# EAGLE library part FAN5602 (library lolomolo)
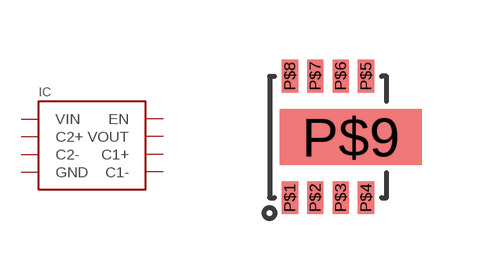
[diagram p7: symbol with the pads of 3X3MM_8LEAD_MLP; footprint 3X3MM_8LEAD_MLP]

Designator prefix IC

## FAN5602  [3X3MM_8LEAD_MLP]
P$1  VIN
P$2  C2+
P$3  C2-
P$4  GND
P$5  C1-
P$6  VOUT
P$7  C1+
P$8  EN

## Footprint 3X3MM_8LEAD_MLP (pad centres in mm)
smd 0.406 x 0.813: P$1 0,0; P$2 0.635,0; P$3 1.27,0; P$4 1.905,0; P$5 1.905,3.048; P$6 1.27,3.048; P$7 0.635,3.048; P$8 0,3.048
smd 3.556 x 1.397: P$9 1.524,1.524